# Altium schematic symbol library SamacSys.SchLib: 241 symbols (part 2 of 3)
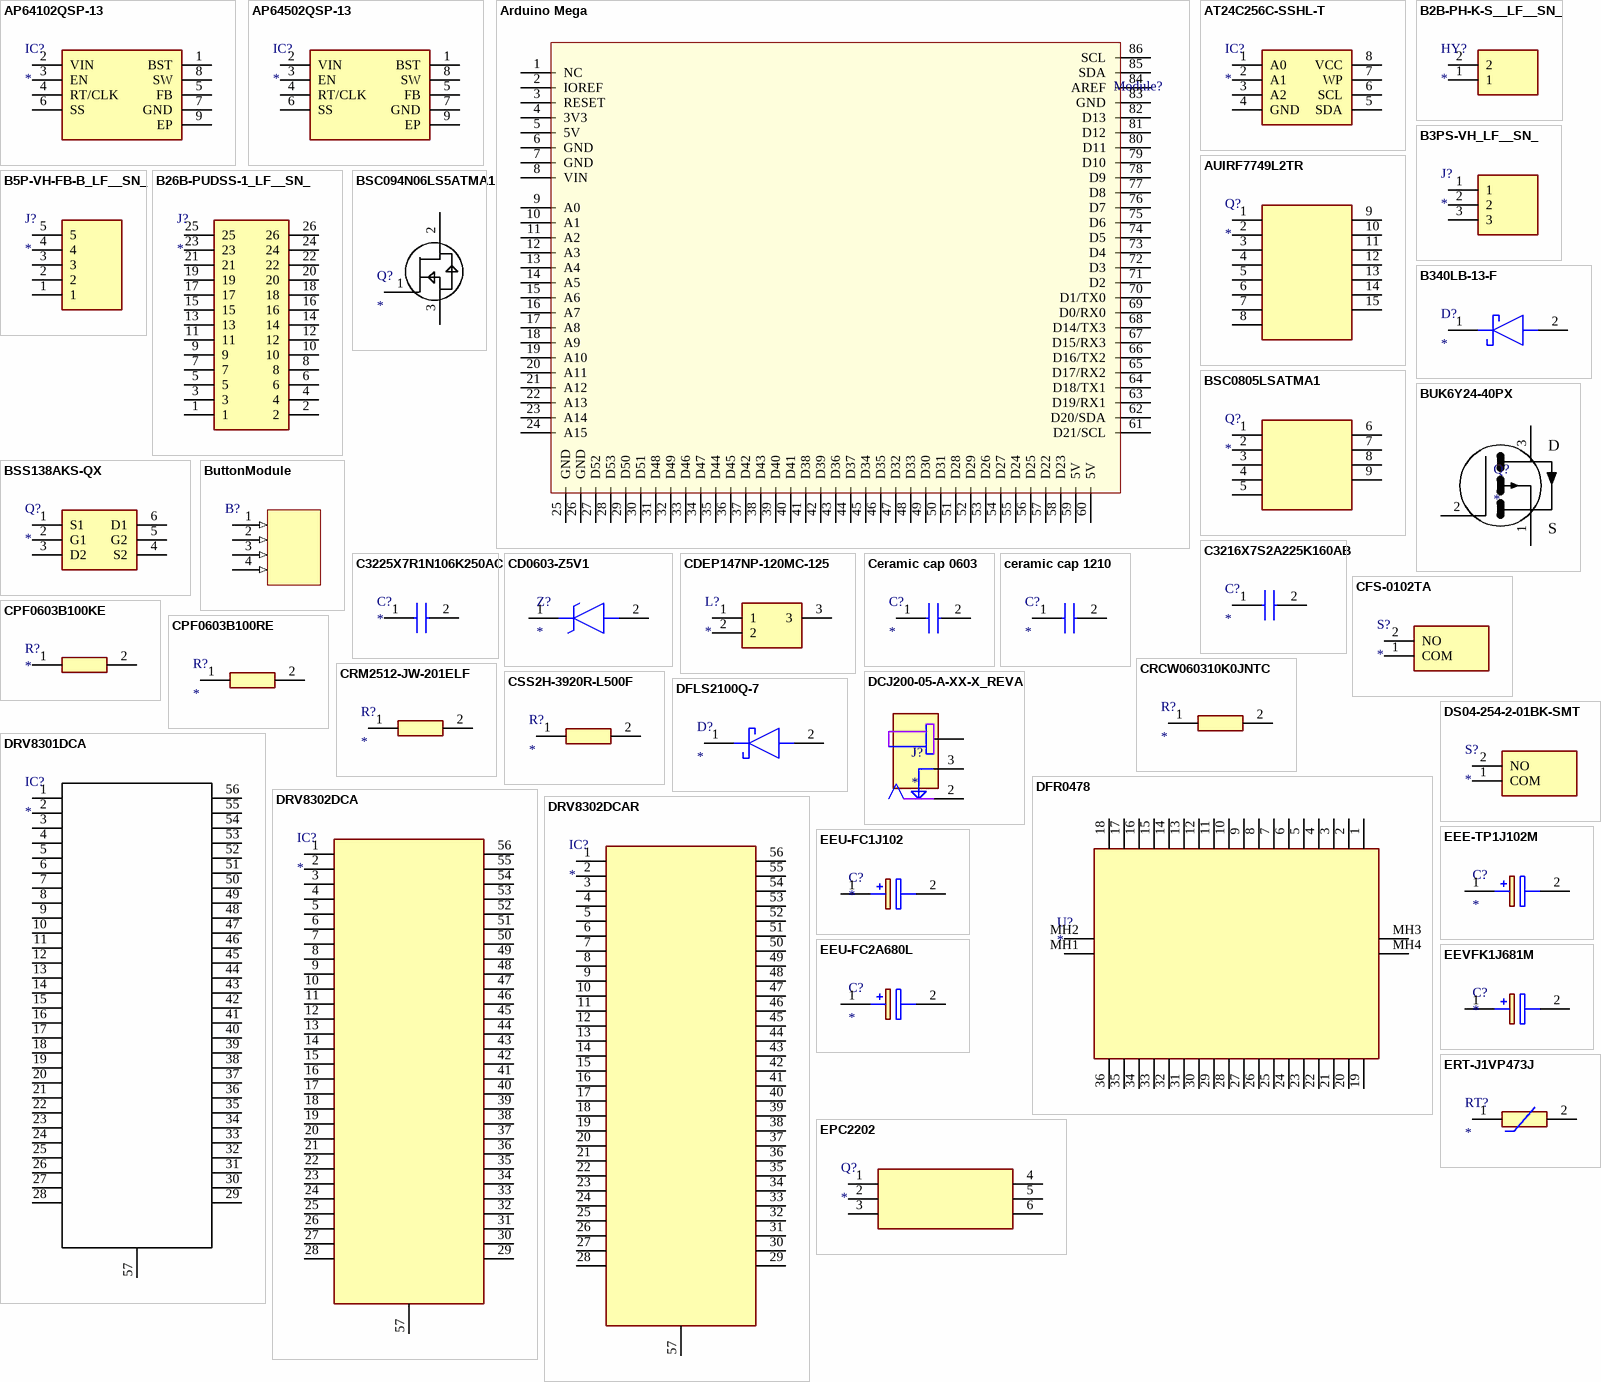
[diagram p7: symbols AP64102QSP-13 to ERT-J1VP473J]

## EEE-TP1J102M
designator C?
Capacitor Polarised; Manufacturer_Name: Panasonic; Manufacturer_Part_Number: EEE-TP1J102M; Datasheet Link: http://industrial.panasonic.com/cdbs/www-data/pdf/RDE0000/RDE0000C1255.pdf; Height: 22mm; Mouser Part Number: 667-EEE-TP1J102M; Mouser Price/Stock: https://www.mouser.co.uk/ProductDetail/Panasonic/EEE-TP1J102M?qs=XFmntM7Yc9ebPp5dua78mw%3D%3D; Arrow Part Number: EEE-TP1J102M; Arrow Price/Stock: https://www.arrow.com/en/products/eee-tp1j102m/panasonic?region=europe
footprint EEEFK0J133SM
pins: 1 +, 2 -

## EEU-FC1J102
designator C?
Capacitor Polarised; Manufacturer_Name: Panasonic; Manufacturer_Part_Number: EEU-FC1J102; Datasheet Link: https://industrial.panasonic.com/cdbs/www-data/pdf/RDF0000/ABA0000C1209.pdf; Height: 37.5mm; Mouser Part Number: 667-EEU-FC1J102; Mouser Price/Stock: https://www.mouser.com/Search/Refine.aspx?Keyword=667-EEU-FC1J102
footprint CAPPRD750W85D1600H3750
footprint capacitor layflat
pins: 1 +, 2 -

## EEU-FC2A680L
designator C?
Capacitor Polarised; Manufacturer_Name: Panasonic; Manufacturer_Part_Number: EEU-FC2A680L; Datasheet Link: http://industrial.panasonic.com/cdbs/www-data/pdf/RDF0000/ABA0000C1209.pdf; Height: 27mm; Mouser Part Number: 667-EEU-FC2A680L; Mouser Price/Stock: https://www.mouser.co.uk/ProductDetail/Panasonic/EEU-FC2A680L?qs=MtOUKumLmnZxLFnOjqwsxw%3D%3D; Arrow Part Number: EEU-FC2A680L; Arrow Price/Stock: https://www.arrow.com/en/products/eeu-fc2a680l/panasonic?region=nac
footprint CAPPRD500W65D1000H2700
pins: 1 +, 2 -

## EEVFK1J681M
designator C?
Capacitor Polarised; Manufacturer_Name: Panasonic; Manufacturer_Part_Number: EEVFK1J681M; Allied_Number: 70068610; Datasheet Link: https://industrial.panasonic.com/cdbs/www-data/pdf/RDE0000/ABA0000C1181.pdf; RS Part Number: 7083658P; RS Price/Stock: http://uk.rs-online.com/web/p/products/7083658P; Allied Price/Stock: https://www.alliedelec.com/panasonic-eevfk1j681m/70068610/
footprint FKV(K16)
pins: 1 +, 2 -

## EPC2202
designator Q?
Transistor; Manufacturer_Name: EPC; Manufacturer_Part_Number: EPC2202; Datasheet Link: http://epc-co.com/epc/documents/datasheets/EPC2202_datasheet.pdf; Height: 0.815mm
footprint EPC2202
pins: 1 G, 2 SUBSTRATE, 3 D_1, 4 S_1, 5 D_2, 6 S_2

## ERT-J1VP473J
designator RT?
Thermistor; Manufacturer_Name: Panasonic; Manufacturer_Part_Number: ERT-J1VP473J; Datasheet Link: https://industrial.panasonic.com/cdbs/www-data/pdf/AUA0000/AUA0000C8.pdf; Height: 0.9mm
footprint ERTJ1VA101H
pins: 1, 2

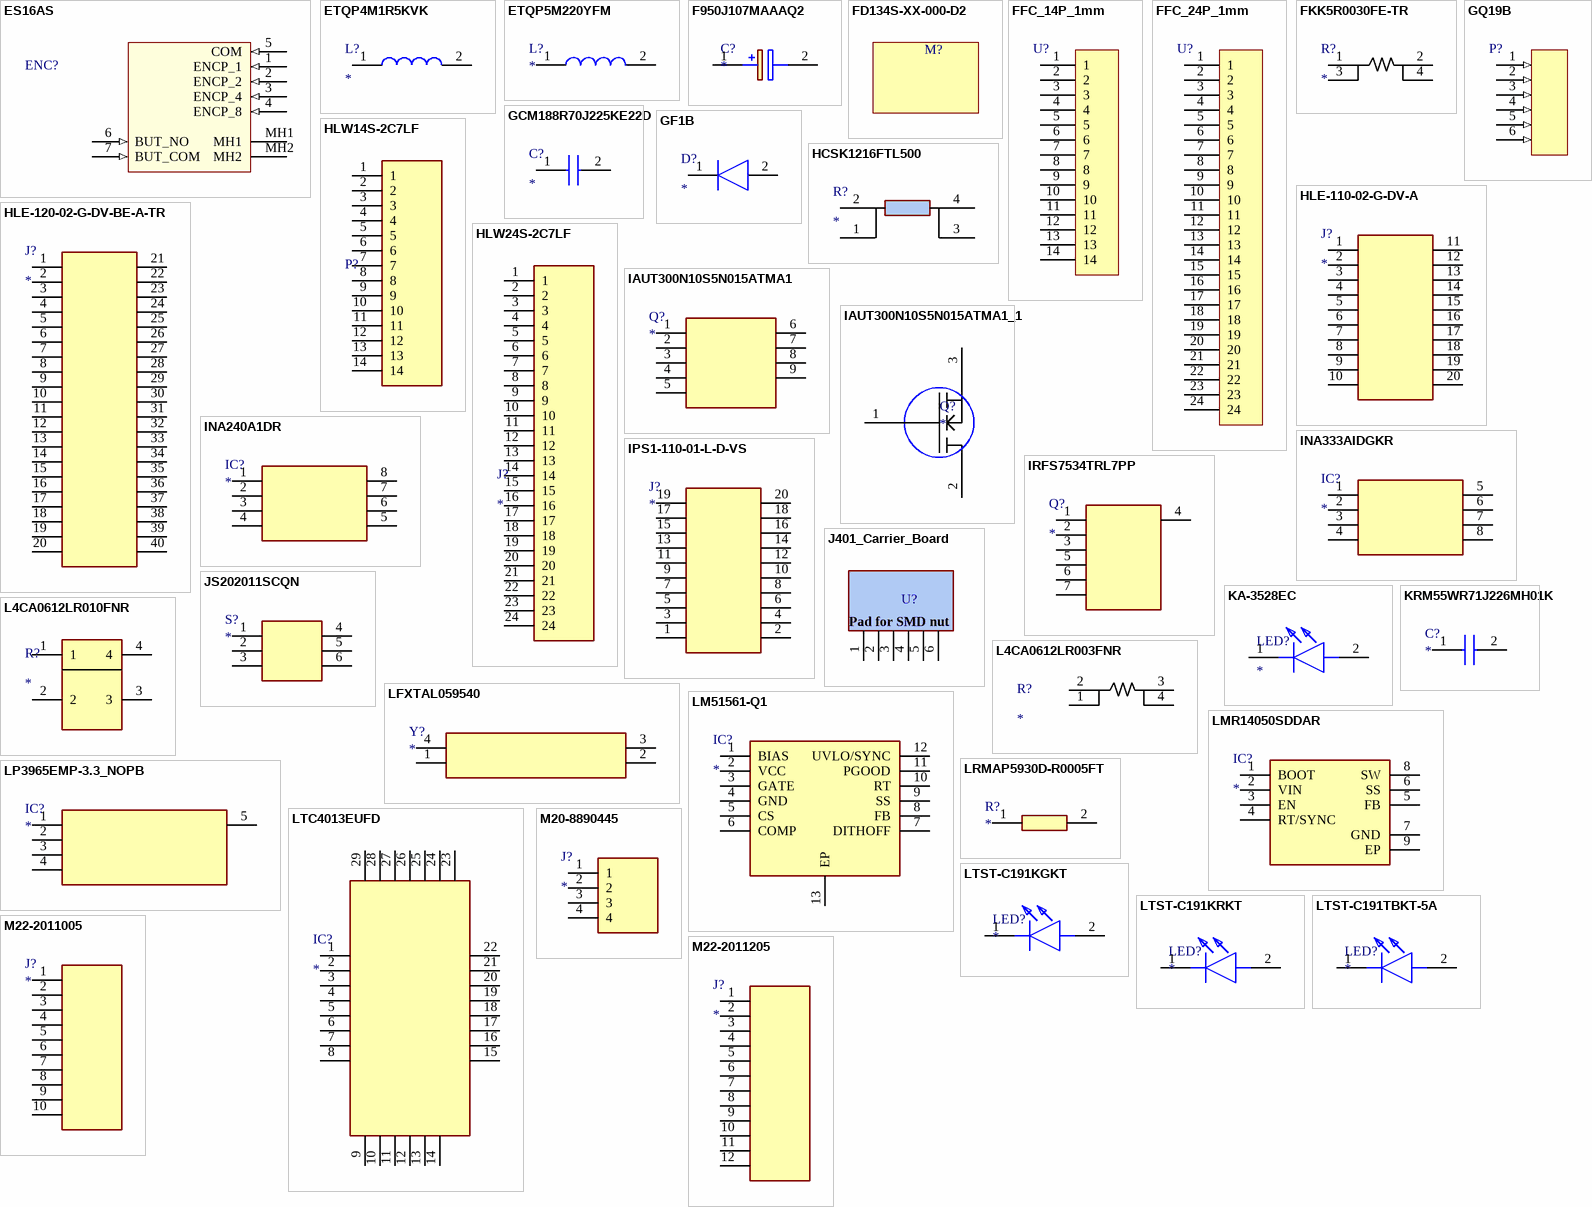
[diagram p3: symbols ES16AS to M22-2011205]

## ES16AS
designator ENC?  (value not drawn)
Absolute Encoder 16 position BCD; ComponentLink1Description: New link; ComponentLink1URL: https://item.taobao.com/item.htm?abbucket=19&id=711101684572&mi_id=0000Lt4bbgb_D-7w40iOwNFFc3WgliSgKq53HfGX-DsuvEk&ns=1&priceTId=21016c1a17624915091561445e08db&skuId=5252825914200&spm=a21n57.1.hoverItem.2&utparam=%7B%22aplus_abtest%22%3A%225e9e3be5292014ccb59f1a6673cfe35f%22%7D&xxc=taobaoSearch
footprint ES16AS (Absolute Encoder 16 position throughHole)
pins: 1 ENCP_1 (in), 2 ENCP_2 (in), 3 ENCP_4 (in), 4 ENCP_8 (in), 5 COM (in), 6 BUT_NO (in), 7 BUT_COM (in), MH1, MH2

## ETQP4M1R5KVK
designator L?
Inductor; Manufacturer_Name: Panasonic; Manufacturer_Part_Number: ETQP4M1R5KVK; Datasheet Link: http://industrial.panasonic.com/cdbs/www-data/pdf/AGL0000/AGL0000C63.pdf; Height: 4mm; Arrow Part Number: ETQP4M1R5KVK; Arrow Price/Stock: https://www.arrow.com/en/products/etq-p4m1r5kvk/panasonic
footprint ETQ-P4M_KVK
pins: 1, 2

## ETQP5M220YFM
designator L?
Inductor; Manufacturer_Name: Panasonic; Manufacturer_Part_Number: ETQP5M220YFM; Allied_Number: 70349407; Datasheet Link: https://b2b-api.panasonic.eu/file_stream/pids/fileversion/1334; Height: 5.4mm; RS Part Number: 7709401P; RS Price/Stock: http://uk.rs-online.com/web/p/products/7709401P; Allied Price/Stock: https://www.alliedelec.com/panasonic-etqp5m220yfm/70349407/
footprint INDPM7570X540N
pins: 1, 2

## F950J107MAAAQ2
designator C?
Capacitor Polarised; Manufacturer_Name: AVX; Manufacturer_Part_Number: F950J107MAAAQ2; Datasheet Link: https://altium.componentsearchengine.com/Datasheets/2/F950J107MAAAQ2.pdf; Height: 1.8mm
footprint CAPPM3216X180N
pins: 1 +, 2 -

## FD134S-XX-000-D2
designator M?  (value not drawn)
Kinco Motor Driver Dual Control
footprint FD134S-CB-020-D2 (Kinco Motor Driver dual driver)

## FFC_14P_1mm
designator U?  (value not drawn)
FFC Connector
footprint FFC_14P_1mm (FFC connector 1mm 14 position)
pins: 1, 2, 3, 4, 5, 6, 7, 8, 9, 10, 11, 12, 13, 14

## FFC_24P_1mm
designator U?  (value not drawn)
FFC 24P 1mm
footprint FFC_24P_1mm (FFC Connector pad)
pins: 1, 2, 3, 4, 5, 6, 7, 8, 9, 10, 11, 12, 13, 14, 15, 16, 17, 18, 19, 20, 21, 22, 23, 24

## FKK5R0030FE-TR
designator R?
Resistor; Manufacturer_Name: Ohmite; Manufacturer_Part_Number: FKK5R0030FE-TR; Datasheet Link: https://componentsearchengine.com/Datasheets/2/FKK5R0030FE-TR.pdf; Height: 3.5mm
footprint FKK5R0030FETR
pins: 1, 2, 3, 4

## GCM188R70J225KE22D
designator C?
Capacitor; Manufacturer_Name: Murata Electronics; Manufacturer_Part_Number: GCM188R70J225KE22D; Datasheet Link: https://psearch.en.murata.com/capacitor/product/GCM188R70J225KE22%23.pdf; Height: 0.9mm; Mouser Part Number: 81-GCM188R70J225KE2D; Mouser Price/Stock: https://www.mouser.com/Search/Refine.aspx?Keyword=81-GCM188R70J225KE2D; RS Part Number: 8151272P; RS Price/Stock: http://uk.rs-online.com/web/p/products/8151272P
footprint CAPC1608X90N
pins: 1, 2

## GF1B
designator D?
Diode; Manufacturer_Name: ON Semiconductor; Manufacturer_Part_Number: GF1B; Datasheet Link: https://www.onsemi.com/pub/Collateral/GF1M-D.pdf; Height: 2.5mm; Mouser Part Number: 512-GF1B; Mouser Price/Stock: https://www.mouser.co.uk/ProductDetail/ON-Semiconductor-Fairchild/GF1B?qs=qpnRKYi16JjfW7uh%2FyHYYg%3D%3D; Arrow Part Number: GF1B; Arrow Price/Stock: https://www.arrow.com/en/products/gf1b/on-semiconductor
footprint DIOM5227X250N
pins: 1 K, 2 A

## GQ19B
designator P?  (value not drawn)
Socket Housing for ESTOP 2 row 3 pin 6 circuit (Harness)
footprint GQ19B_Socket (Socket for ESTOP 6 position)
pins: 1 (in) "NC1", 2 (in) "NO1", 3 (in) "COM1", 4 (in) "NC2", 5 (in) "NO2", 6 (in) "COM2"

## HCSK1216FTL500
designator R?
Current Sense Resistor; Manufacturer_Name: Stackpole Electronics; Manufacturer_Part_Number: HCSK1216FTL500; Datasheet Link: https://www.seielect.com/catalog/sei-hcsk.pdf; Height: 1.9mm; Arrow Part Number: HCSK1216FTL500; Arrow Price/Stock: https://www.arrow.com/en/products/hcsk1216ftl500/stackpole-electronics
footprint HCSK1216FTL500
pins: 1, 2, 3, 4

## HLE-110-02-G-DV-A
designator J?
Connector; Manufacturer_Name: SAMTEC; Manufacturer_Part_Number: HLE-110-02-G-DV-A; Datasheet Link: http://suddendocs.samtec.com/prints/hle-1xx-02-xxx-dv-xx-xx-xx-mkt.pdf; Height: 3.96mm
footprint HLE11002GDVA
pins: 1, 2, 3, 4, 5, 6, 7, 8, 9, 10, 11, 12, 13, 14, 15, 16, 17, 18, 19, 20

## HLE-120-02-G-DV-BE-A-TR
designator J?
Connector; Manufacturer_Name: SAMTEC; Manufacturer_Part_Number: HLE-120-02-G-DV-BE-A-TR; Datasheet Link: https://www.mouser.fi/datasheet/2/527/hle-1370182.pdf; Height: 3.66mm; Mouser Part Number: 200-HLE12002GDVBEATR; Mouser Price/Stock: https://www.mouser.com/Search/Refine.aspx?Keyword=200-HLE12002GDVBEATR
footprint HLE12002GDVBEATR
pins: 1, 2, 3, 4, 5, 6, 7, 8, 9, 10, 11, 12, 13, 14, 15, 16, 17, 18, 19, 20, 21, 22, 23, 24, 25, 26, 27, 28, 29, 30, 31, 32, 33, 34, 35, 36, 37, 38, 39, 40

## HLW14S-2C7LF
designator P?  (value not drawn)
PFC connector
footprint HLW14S-2C7LF (PFC connector)
pins: 1, 2, 3, 4, 5, 6, 7, 8, 9, 10, 11, 12, 13, 14

## HLW24S-2C7LF
designator J?
FPC connector 24 position
footprint HLW24S-2C7LF (PFC_Connector)
pins: 1, 2, 3, 4, 5, 6, 7, 8, 9, 10, 11, 12, 13, 14, 15, 16, 17, 18, 19, 20, 21, 22, 23, 24

## IAUT300N10S5N015ATMA1
designator Q?
MOSFET (N-Channel); Manufacturer_Name: Infineon; Manufacturer_Part_Number: IAUT300N10S5N015ATMA1; Datasheet Link: https://www.infineon.com/dgdl/Infineon-IAUT300N10S5N015-DS-v01_00-EN.pdf?fileId=5546d4625ee5d4cd015f2469d7203245; Mouser Part Number: 726-IAUT300N10S5N015; Mouser Price/Stock: https://www.mouser.com/Search/Refine.aspx?Keyword=726-IAUT300N10S5N015
footprint IAUT300N10S5N015ATMA1_1
pins: 1 G, 2 S_1, 3 S_2, 4 S_3, 5 S_4, 6 S_5, 7 S_6, 8 S_7, 9 D

## IAUT300N10S5N015ATMA1_1
designator Q?
MOSFET N_Channel
footprint IAUT300N10S5N015ATMA1_1
pins: 1, 2, 3

## INA240A1DR
designator IC?
Integrated Circuit; Manufacturer_Name: Texas Instruments; Manufacturer_Part_Number: INA240A1DR; Datasheet Link: http://www.ti.com/lit/gpn/ina240; Height: 1.75mm; Mouser Part Number: 595-INA240A1DR; Mouser Price/Stock: https://www.mouser.com/Search/Refine.aspx?Keyword=595-INA240A1DR
footprint SOIC127P600X175-8N
pins: 1 IN-, 2 GND, 3 REF2, 4 NC, 5 OUT, 6 VS, 7 REF1, 8 IN+

## INA333AIDGKR
designator IC?
Integrated Circuit; Manufacturer_Name: Texas Instruments; Manufacturer_Part_Number: INA333AIDGKR; Datasheet Link: http://www.ti.com/lit/ds/symlink/ina333.pdf; Height: 1.1mm; Mouser Part Number: 595-INA333AIDGKR; Mouser Price/Stock: https://www.mouser.com/Search/Refine.aspx?Keyword=595-INA333AIDGKR
footprint SOP65P490X110-8N
pins: 1 RG_1, 2 VIN-, 3 VIN+, 4 V-, 5 REF, 6 VOUT, 7 V+, 8 RG_2

## IPS1-110-01-L-D-VS
designator J?
Connector; Manufacturer_Name: SAMTEC; Manufacturer_Part_Number: IPS1-110-01-L-D-VS; Datasheet Link: http://suddendocs.samtec.com/prints/ips1-1xx-xx-xx-d-vs-xx-xx-mkt.pdf; Height: 8.51mm; Mouser Part Number: 200-IPS111001LDVS; Mouser Price/Stock: https://www.mouser.com/Search/Refine.aspx?Keyword=200-IPS111001LDVS
footprint IPS111001LDVS
pins: 1, 2, 3, 4, 5, 6, 7, 8, 9, 10, 11, 12, 13, 14, 15, 16, 17, 18, 19, 20

## IRFS7534TRL7PP
designator Q?
MOSFET (N-Channel); Manufacturer_Name: Infineon; Manufacturer_Part_Number: IRFS7534TRL7PP; Datasheet Link: https://www.infineon.com/dgdl/irfs7534-7ppbf.pdf?fileId=5546d462533600a40153563aa65221da; Height: 4.83mm; Mouser Part Number: 942-IRFS7534TRL7PP; Mouser Price/Stock: https://www.mouser.co.uk/ProductDetail/Infineon-IR/IRFS7534TRL7PP?qs=a7rcPCEf1Q%252B2WBYCHY9HvQ%3D%3D; Arrow Part Number: IRFS7534TRL7PP; Arrow Price/Stock: https://www.arrow.com/en/products/irfs7534trl7pp/infineon-technologies-ag
footprint IRFS7534TRL7PP
pins: 1 G, 2 S_1, 3 S_2, 4 D, 5 S_3, 6 S_4, 7 S_5

## J401_Carrier_Board
designator U?, comment J401  (value not drawn)  (no BOM)
Carrier Board
footprint J401_Carrier_Mount
pins: 1, 2, 3, 4, 5, 6
text: Pad for SMD nut

## JS202011SCQN
designator S?
Switch; Manufacturer_Name: C & K COMPONENTS; Manufacturer_Part_Number: JS202011SCQN; Datasheet Link: http://www.ckswitches.com/media/1422/js.pdf; Mouser Part Number: 611-JS202011SCQN; Mouser Price/Stock: https://www.mouser.com/Search/Refine.aspx?Keyword=611-JS202011SCQN; RS Part Number: 1546137; RS Price/Stock: http://uk.rs-online.com/web/p/products/1546137
footprint JS202011SCQN
pins: 1, 2, 3, 4, 5, 6

## KA-3528EC
designator LED?
LED; Manufacturer_Name: Kingbright; Manufacturer_Part_Number: KA-3528EC; Datasheet Link: https://eagle.componentsearchengine.com/Datasheets/2/KA-3528EC.pdf; Height: 2.1mm; Mouser Part Number: N/A; Mouser Price/Stock: https://www.mouser.com/Search/Refine.aspx?Keyword=N%2FA; Arrow Part Number: KA-3528EC; Arrow Price/Stock: https://www.arrow.com/en/products/ka-3528ec/kingbright
footprint LEDM3528X210N
pins: 1 K, 2 A

## KRM55WR71J226MH01K
designator C?
Capacitor; Manufacturer_Name: Murata Electronics; Manufacturer_Part_Number: KRM55WR71J226MH01K; Datasheet Link: https://psearch.en.murata.com/capacitor/product/KRM55WR71J226MH01%23.html; Height: 6.7mm; Mouser Part Number: 81-KRM55WR71J226MH1K; Mouser Price/Stock: https://www.mouser.com/Search/Refine.aspx?Keyword=81-KRM55WR71J226MH1K; RS Part Number: 8416740P; RS Price/Stock: http://uk.rs-online.com/web/p/products/8416740P
footprint CAPC6153X670N
pins: 1, 2

## L4CA0612LR003FNR
designator R?
Resistor; Manufacturer_Name: LITTELFUSE; Manufacturer_Part_Number: L4CA0612LR003FNR; Datasheet Link: https://www.littelfuse.com/media?resourcetype=datasheets&itemid=db674d7b-aa25-4173-816a-92297475a59f&filename=littelfuse-resistor-l4ca-c-datasheet; Height: 0.7mm
footprint L4CA0612L0M50FNR
pins: 1, 2, 3, 4

## L4CA0612LR010FNR
designator R?
Resistor; Manufacturer_Name: LITTELFUSE; Manufacturer_Part_Number: L4CA0612LR010FNR; Datasheet Link: https://www.littelfuse.com/media?resourcetype=datasheets&itemid=db674d7b-aa25-4173-816a-92297475a59f&filename=littelfuse-resistor-l4ca-c-datasheet; Height: 0.7mm
footprint L4CA0612L0M50FNR
pins: 1, 2, 3, 4

## LFXTAL059540
designator Y?
Crystal or Oscillator; Manufacturer_Name: IQD; Manufacturer_Part_Number: LFXTAL059540; Datasheet Link: https://componentsearchengine.com/Datasheets/2/LFXTAL059540.pdf; Height: 1mm
footprint LFXTAL059540
pins: 1 CRYSTAL_1, 2 GND_1, 3 CRYSTAL_2, 4 GND_2

## LM51561-Q1
designator IC?
Integrated Circuit; Manufacturer_Name: Texas Instruments; Manufacturer_Part_Number: LM51561-Q1; Datasheet Link: https://www.ti.com.cn/cn/lit/ds/symlink/lm51561-q1.pdf?ts=1627631190706&ref_url=https%253A%252F%252Fwww.ti.com.cn%252Fsitesearch%252Fcn%252Fdocs%252Funiversalsearch.tsp%253FlangPref%253Dzh-CN%2526searchTerm%253DLM51561-Q1%2526nr%253D34; Height: 0.8mm
footprint SON50P200X300X80-13N-D
pins: 1 BIAS, 2 VCC, 3 GATE, 4 GND, 5 CS, 6 COMP, 7 DITHOFF, 8 FB, 9 SS, 10 RT, 11 PGOOD, 12 UVLO/SYNC, 13 EP

## LMR14050SDDAR
designator IC?
Integrated Circuit; Manufacturer_Name: Texas Instruments; Manufacturer_Part_Number: LMR14050SDDAR; Datasheet Link: http://www.ti.com/lit/gpn/lmr14050; Height: 1.7mm; Mouser Part Number: 595-LMR14050SDDAR; Mouser Price/Stock: https://www.mouser.co.uk/ProductDetail/Texas-Instruments/LMR14050SDDAR?qs=G5PZsBocSXuzvyUQdQ5q2Q%3D%3D; Arrow Part Number: LMR14050SDDAR; Arrow Price/Stock: https://www.arrow.com/en/products/lmr14050sddar/texas-instruments?utm_currency=USD&region=nac
footprint SOIC127P600X170-9N
pins: 1 BOOT, 2 VIN, 3 EN, 4 RT/SYNC, 5 FB, 6 SS, 7 GND, 8 SW, 9 EP

## LP3965EMP-3.3_NOPB
designator IC?
Integrated Circuit; Manufacturer_Name: Texas Instruments; Manufacturer_Part_Number: LP3965EMP-3.3/NOPB; Datasheet Link: http://www.ti.com/lit/ds/symlink/lp3965.pdf; Height: 1.8mm; Mouser Part Number: 926-LP3965EMP3.3NOPB; Mouser Price/Stock: https://www.mouser.com/Search/Refine.aspx?Keyword=926-LP3965EMP3.3NOPB; RS Part Number: 6474328P; RS Price/Stock: http://uk.rs-online.com/web/p/products/6474328P
footprint SOT150P700X180-5N
pins: 1 ~{SD}, 2 VIN, 3 VOUT, 4 SENSE/ADJ, 5 GND_TAB

## LRMAP5930D-R0005FT
designator R?
Resistor; Manufacturer_Name: TT ELECTRONICS / WELWYN; Manufacturer_Part_Number: LRMAP5930D-R0005FT; Datasheet Link: https://componentsearchengine.com/Datasheets/2/LRMAP5930D-R0005FT.pdf; Height: 1.57mm
footprint RESC15078X157N
pins: 1, 2

## LTC4013EUFD
designator IC?
Integrated Circuit; Manufacturer_Name: Analog Devices; Manufacturer_Part_Number: LTC4013EUFD; Height: 0.8mm
footprint QFN50P400X500X80-29N-D
pins: 1 INFET, 2 DCIN, 3 MPPT, 4 FBOC, 5 ENAB, 6 ISMON, 7 STAT0, 8 STAT1, 9 LB, 10 TMR, 11 MODE1, 12 MODE2, 13 CLKOUT, 14 SYNC, 15 RT, 16 ITH, 17 NTC, 18 FB, 19 BAT, 20 SENSE, 21 BST, 22 TG, 23 SW, 24 BG, 25 INTVCC, 26 PGND, 27 VIN, 28 VIN_S, 29 SGND

## LTST-C191KGKT
designator LED?
LED; Manufacturer_Name: Lite-On; Manufacturer_Part_Number: LTST-C191KGKT; Datasheet Link: http://www.mouser.com/ds/2/239/S_110_LTST-C191KGKT-369560.pdf; Height: 0.55mm; Mouser Part Number: 859-LTST-C191KGKT; Mouser Price/Stock: https://www.mouser.com/Search/Refine.aspx?Keyword=859-LTST-C191KGKT; RS Part Number: 6921010P; RS Price/Stock: http://uk.rs-online.com/web/p/products/6921010P
footprint LEDC1608X55N
footprint LEDC1608X55N
pins: 1 K, 2 A

## LTST-C191KRKT
designator LED?
LED; Manufacturer_Name: Lite-On; Manufacturer_Part_Number: LTST-C191KRKT; Datasheet Link: http://www.mouser.com/ds/2/239/S_110_LTST-C191KRKT-539838.pdf; Height: 0.55mm; Mouser Part Number: 859-LTST-C191KRKT; Mouser Price/Stock: https://www.mouser.com/Search/Refine.aspx?Keyword=859-LTST-C191KRKT; RS Part Number: 1278415P; RS Price/Stock: http://uk.rs-online.com/web/p/products/1278415P
footprint LEDC1608X55N
pins: 1 K, 2 A

## LTST-C191TBKT-5A
designator LED?
LED; Manufacturer_Name: Lite-On; Manufacturer_Part_Number: LTST-C191TBKT-5A; Datasheet Link: http://www.mouser.com/ds/2/239/S_110_LTST-C191TBKT-5A-336399.pdf; Height: 0.65mm; Mouser Part Number: 859-LTST-C191TBKT-5A; Mouser Price/Stock: https://www.mouser.com/Search/Refine.aspx?Keyword=859-LTST-C191TBKT-5A
footprint LEDC1608X65N
pins: 1 K, 2 A

## M20-8890445
designator J?
Connector; Manufacturer_Name: Harwin; Manufacturer_Part_Number: M20-8890445; Datasheet Link: https://cdn.harwin.com/pdfs/M20-889.pdf; Mouser Part Number: 855-M20-8890445; Mouser Price/Stock: https://www.mouser.co.uk/ProductDetail/Harwin/M20-8890445?qs=k41KVqW3ymqP79ULFIESdg%3D%3D
footprint M208890445
pins: 1, 2, 3, 4

## M22-2011005
designator J?
Connector; Manufacturer_Name: HARWIN; Manufacturer_Part_Number: M22-2011005; Allied_Number: R1052589; Datasheet Link: https://componentsearchengine.com/Datasheets/3/M22-2011005.pdf; Height: 5.25mm; Mouser Part Number: 855-M22-2011005; Mouser Price/Stock: https://www.mouser.com/Search/Refine.aspx?Keyword=855-M22-2011005; RS Part Number: 1730929; RS Price/Stock: http://uk.rs-online.com/web/p/products/1730929; Allied Price/Stock: https://www.alliedelec.com/harwin-m22-2011005/R1052589/
footprint HDRV10W50P12X200_1X10_2000X218X525P
pins: 1, 2, 3, 4, 5, 6, 7, 8, 9, 10

## M22-2011205
designator J?
Connector; Manufacturer_Name: HARWIN; Manufacturer_Part_Number: M22-2011205; Datasheet Link: https://cdn.harwin.com/pdfs/M22-201.pdf; Height: 5.25mm; Mouser Part Number: 855-M22-2011205; Mouser Price/Stock: https://www.mouser.com/Search/Refine.aspx?Keyword=855-M22-2011205; RS Part Number: 1730943; RS Price/Stock: https://uk.rs-online.com/web/p/products/1730943
footprint HDRV12W60P0X200_1X12_2415X200X525P
pins: 1, 2, 3, 4, 5, 6, 7, 8, 9, 10, 11, 12

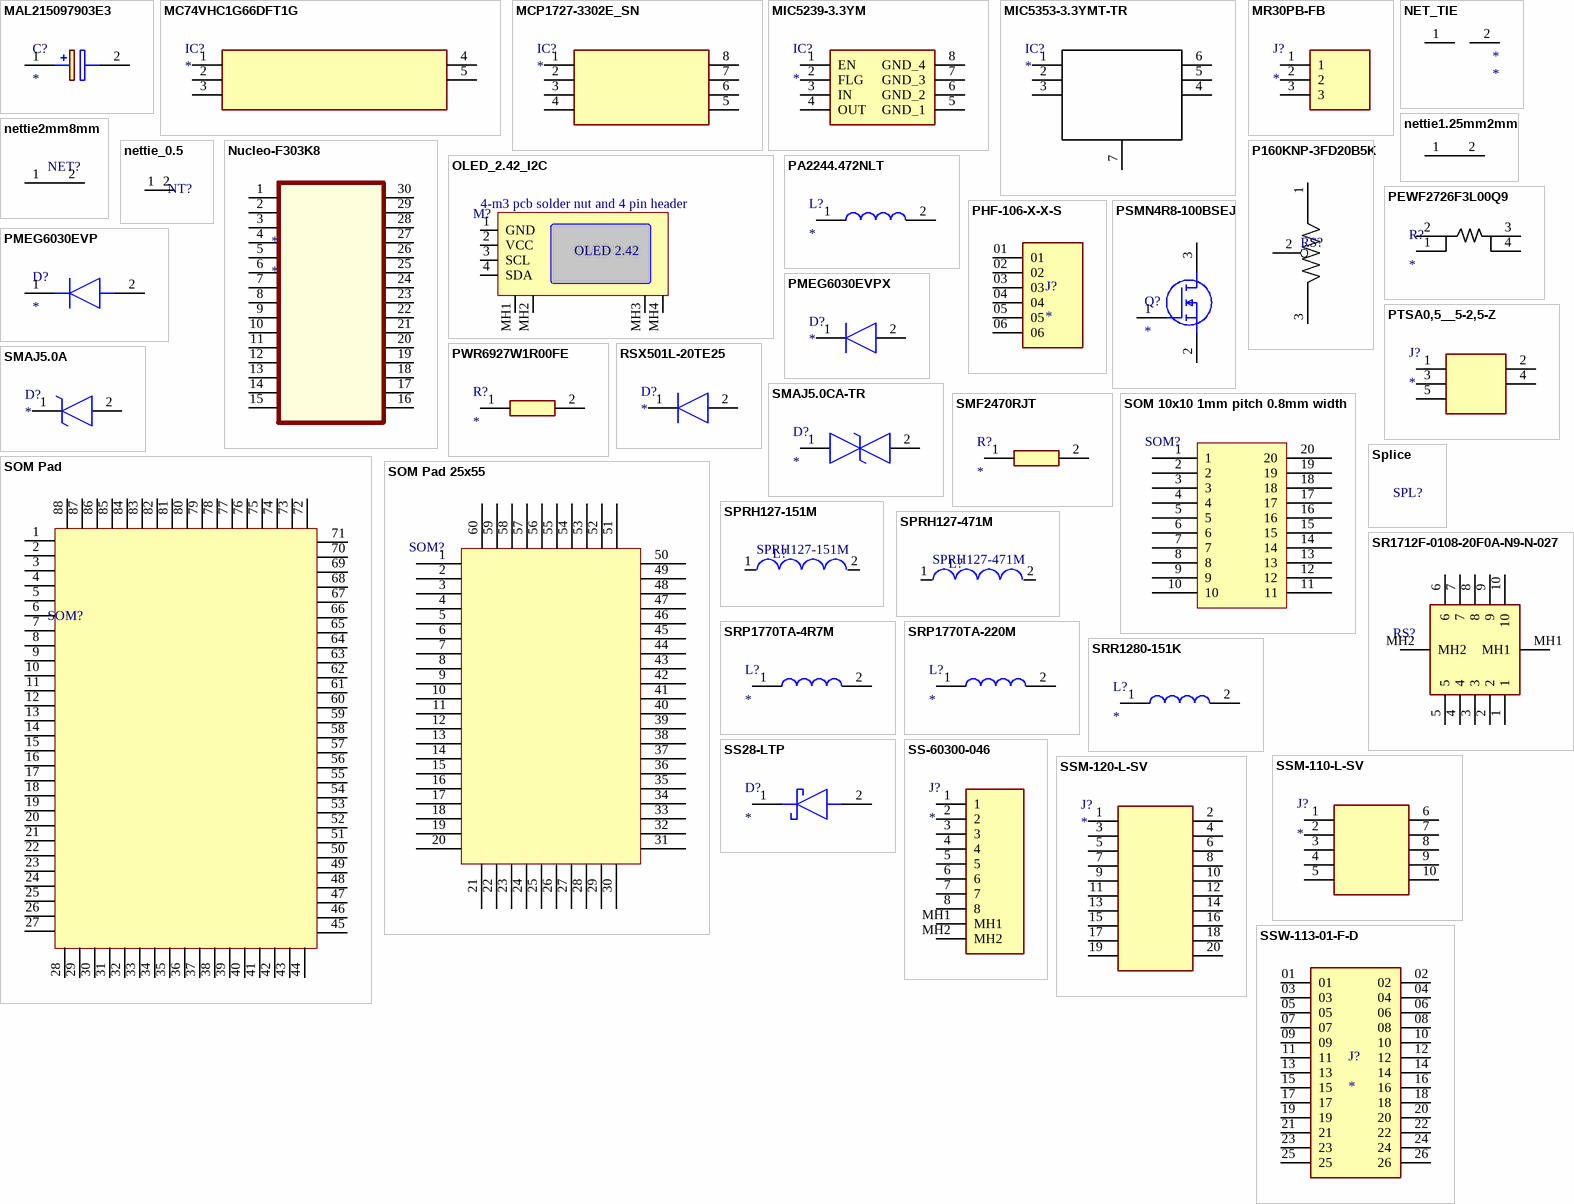
[diagram p4: symbols MAL215097903E3 to SSW-113-01-F-D]

## MAL215097903E3
designator C?
Capacitor Polarised; Manufacturer_Name: Vishay; Manufacturer_Part_Number: MAL215097903E3; Datasheet Link: https://www.vishay.com/docs/28395/150crz.pdf; Height: 10.5mm; Mouser Part Number: 594-MAL215097903E3; Mouser Price/Stock: https://www.mouser.co.uk/ProductDetail/Vishay-BC-Components/MAL215097903E3?qs=LPi%252B6n6Uj5OsnMk8zC6V4Q%3D%3D
footprint CAPAE1050X1050N
pins: 1 +, 2 -

## MC74VHC1G66DFT1G
designator IC?
Integrated Circuit; Manufacturer_Name: ON Semiconductor; Manufacturer_Part_Number: MC74VHC1G66DFT1G; Allied_Number: 70466550; Datasheet Link: http://www.onsemi.com/pub/Collateral/MC74VHC1G66-D.PDF; Height: 1.1mm; Mouser Part Number: 863-MC74VHC1G66DFT1G; Mouser Price/Stock: https://www.mouser.com/Search/Refine.aspx?Keyword=863-MC74VHC1G66DFT1G; RS Part Number: 8064027; RS Price/Stock: https://uk.rs-online.com/web/p/products/8064027; Allied Price/Stock: http://www.alliedelec.com/on-semiconductor-mc74vhc1g66dft1g/70466550/
footprint SOT65P210X110-5N
pins: 1 IN/OUT_XA, 2 OUT/IN_YA, 3 GND, 4 ON/OFF_CONTROL, 5 VCC

## MCP1727-3302E_SN
designator IC?
Integrated Circuit; Manufacturer_Name: Microchip; Manufacturer_Part_Number: MCP1727-3302E/SN; Allied_Number: 70046131; Datasheet Link: http://ww1.microchip.com/downloads/en/DeviceDoc/21999b.pdf; Height: 1.75mm; Mouser Part Number: 579-MCP1727-3302E/SN; Mouser Price/Stock: https://www.mouser.com/Search/Refine.aspx?Keyword=579-MCP1727-3302E%2FSN; RS Part Number: 0403759P; RS Price/Stock: http://uk.rs-online.com/web/p/products/0403759P; Allied Price/Stock: http://www.alliedelec.com/microchip-technology-inc-mcp1727-3302e-sn/70046131/
footprint SOIC127P600X175-8N
pins: 1 VIN, 2 VIN_1, 3 ~{SHDN}, 4 GND, 5 PWRGD, 6 CDELAY, 7 SENSE, 8 VOUT

## MIC5239-3.3YM
designator IC?
Integrated Circuit; Manufacturer_Name: Microchip; Manufacturer_Part_Number: MIC5239-3.3YM; Datasheet Link: https://datasheet.datasheetarchive.com/originals/distributors/Datasheets_SAMA/6dda936cea7bed94cfd59d218c8223d8.pdf; Height: 1.73mm; Mouser Part Number: 998-MIC5239-3.3YM; Mouser Price/Stock: https://www.mouser.co.uk/ProductDetail/Microchip-Technology/MIC5239-3.3YM?qs=kh6iOki%2FeLFBGt7xnl2g1g%3D%3D; Arrow Part Number: MIC5239-3.3YM; Arrow Price/Stock: https://www.arrow.com/en/products/mic5239-3.3ym/microchip-technology?region=europe
footprint SOIC127P599X173-8N
pins: 1 EN, 2 FLG, 3 IN, 4 OUT, 5 GND_1, 6 GND_2, 7 GND_3, 8 GND_4

## MIC5353-3.3YMT-TR
designator IC?
Integrated Circuit; Manufacturer_Name: Microchip; Manufacturer_Part_Number: MIC5353-3.3YMT-TR; Datasheet Link: http://ww1.microchip.com/downloads/en/DeviceDoc/mic5353.pdf; Height: 0.6mm; Mouser Part Number: 998-MIC5353-3.3YMTTR; RS Part Number: 1773219P; RS Price/Stock: http://uk.rs-online.com/web/p/products/1773219P
footprint SON50P160X160X60-7N-D
pins: 1 EN, 2 GND, 3 VIN, 4 VOUT, 5 NC, 6 BYP, 7 EP

## MR30PB-FB
designator J?
Connector; Manufacturer_Name: Amass; Manufacturer_Part_Number: MR30PB-FB; Datasheet Link: 23226; Height: 9.4mm
footprint MR30PBFB
pins: 1, 2, 3

## NET_TIE
designator *  (net tie, no BOM)
footprint NET_TIE1
pins: 1 10, 2 11

## nettie1.25mm2mm
designator *  (value not drawn)  (net tie, no BOM)
footprint NET_TIE
pins: 1, 2

## nettie2mm8mm
designator NET?  (net tie, no BOM)
footprint nettie
pins: 1, 2

## nettie_0.5
designator NT?  (value not drawn)  (net tie, no BOM)
footprint nettie_0.5
pins: 1, 2

## Nucleo-F303K8
designator *
pins: 1 PA9, 2 PA10, 3 NRST, 4 GND, 5 PA12, 6 PB0, 7 PB7, 8 PB6, 9 PB1, 10 PF0, 11 PF1, 12 PA8, 13 PA11, 14 PB5, 15 PB4, 16 PB3, 17 3V3, 18 AREF, 19 PA0, 20 PA1, 21 PA3, 22 PA4, 23 PA5, 24 PA6, 25 PA7, 26 PA2, 27 5V, 28 NRST, 29, 30

## OLED_2.42_I2C
designator M?  additional item: 4-m3 pcb solder nut and 4 pin header  (hidden comment: *)
OLED LCD 2.42 I2C
footprint LCD_2.42Inch (SDA Connection / 3V3 and 5V compatible)
pins: 1 GND, 2 VCC, 3 SCL, 4 SDA, MH1, MH2, MH3, MH4
text: OLED 2.42

## P160KNP-3FD20B5K
designator RS?  (value not drawn)
detent variable resistor 21 clicks 5K; ComponentLink1Description: New link; ComponentLink1URL: https://www.mouser.sg/datasheet/2/414/TTRB_S_A0009241240_1-2565587.pdf; HelpURL: https://www.mouser.sg/datasheet/2/414/TTRB_S_A0009241240_1-2565587.pdf
footprint P160KNP-3FD20B5K (detent potentiometer 20 clicks 5k resistor)
pins: 1, 2, 3

## PA2244.472NLT
designator L?
Inductor; Manufacturer_Name: PULSE; Manufacturer_Part_Number: PA2244.472NLT; Datasheet Link: https://productfinder.pulseelectronics.com/api/open/part-attachments/datasheet/pa2243.102nlt; Height: 10mm
footprint PA2244472NLT
pins: 1, 2

## PEWF2726F3L00Q9
designator R?
3mohm current sense resistor 5W; Manufacturer_Name: C&B Electronics Shenzhen CO., LTD; Manufacturer_Part_Number: PEWF2726F3L00Q9; Datasheet Link: https://datasheets.globalspec.com/ds/c-b-electronics-shenzhen/pewf2726f3l00q9/a3758b5d-f35d-49a0-abb5-ee2ed6aca71c; Height: 0.889mm; Mouser Part Number: 71-WSL3637R0100DEA; Mouser Price/Stock: https://www.mouser.co.uk/ProductDetail/Vishay-Dale/WSL3637R0100DEA?qs=5qr1tyFj3NLzr0u0T49OJA%3D%3D; Arrow Part Number: WSL3637R0100DEA; Arrow Price/Stock: https://www.arrow.com/en/products/wsl3637r0100dea/vishay
footprint WSL3637R0100DEA
pins: 1, 2, 3, 4

## PHF-106-X-X-S
designator J?
6 pin single row vertical female connector; MF: {'manufacturer': u'Samtec'}; MP: PHF-106-X-X-S; Package: None; Price: None; Value: *; Availability: Unavailable; System: Connector
footprint SAMTEC_PHF-106-X-X-S
pins: 01, 02, 03, 04, 05, 06

## PMEG6030EVP
designator D?
Diode; Manufacturer_Name: Nexperia; Manufacturer_Part_Number: PMEG6030EVP; Datasheet Link: https://datasheet.datasheetarchive.com/originals/distributors/Datasheets-NXP/DSANXP010004927.pdf; Height: 1.1mm; Mouser Part Number: N/A; Mouser Price/Stock: https://www.mouser.com/Search/Refine.aspx?Keyword=N%2FA
footprint SOD4725X110N (Footprint not found)
pins: 1 K, 2 A

## PMEG6030EVPX
designator D?
Diode; Manufacturer_Name: Nexperia; Manufacturer_Part_Number: PMEG6030EVPX; Datasheet Link: https://componentsearchengine.com/Datasheets/1/PMEG6030EVPX.pdf; Height: 1.1mm; Mouser Part Number: 771-PMEG6030EVPX; Mouser Price/Stock: https://www.mouser.com/Search/Refine.aspx?Keyword=771-PMEG6030EVPX; RS Part Number: 1705367P; RS Price/Stock: http://uk.rs-online.com/web/p/products/1705367P
footprint SODFL4725X110N
pins: 1 K, 2 A

## PSMN4R8-100BSEJ
designator Q?
MOSFET (N-Channel); Manufacturer_Name: Nexperia; Manufacturer_Part_Number: PSMN4R8-100BSEJ; Datasheet Link: https://assets.nexperia.com/documents/data-sheet/PSMN4R8-100BSE.pdf; Mouser Part Number: 771-PSMN4R8-100BSEJ; Mouser Price/Stock: https://www.mouser.co.uk/ProductDetail/Nexperia/PSMN4R8-100BSEJ?qs=cbprxTG2Yq8PMgmEgrT98w%3D%3D; Arrow Part Number: PSMN4R8-100BSEJ; Arrow Price/Stock: https://www.arrow.com/en/products/psmn4r8-100bsej/nexperia
footprint D2PAK(SOT404)_1
pins: 1 G, 2 S, 3 D

## PTSA0,5__5-2,5-Z
designator J?
Connector; Manufacturer_Name: Phoenix Contact; Manufacturer_Part_Number: PTSA0,5/ 5-2,5-Z; Datasheet Link: https://www.phoenixcontact.com/en-in/products/printed-circuit-board-terminal-ptsa-05-5-25-z-1990038; Height: 13.1mm
footprint PTSA05525Z
pins: 1, 2, 3, 4, 5

## PWR6927W1R00FE
designator R?
Resistor; Manufacturer_Name: Bourns; Manufacturer_Part_Number: PWR6927W1R00FE; Datasheet Link: https://www.bourns.com/docs/Product-Datasheets/PWR6927_8030_8937_A247_B053.pdf; Height: 6.85mm; Mouser Part Number: 652-PWR6927W1R00FE; Mouser Price/Stock: https://www.mouser.co.uk/ProductDetail/Bourns/PWR6927W1R00FE?qs=NeOn4crkEut%2Fx7F6xcRhNQ%3D%3D
footprint RESM17569X685N
pins: 1, 2

## RSX501L-20TE25
designator D?
Diode; Manufacturer_Name: ROHM Semiconductor; Manufacturer_Part_Number: RSX501L-20TE25; Allied_Number: 70521882; Datasheet Link: https://componentsearchengine.com/Datasheets/2/RSX501L-20TE25.pdf; Height: 2.2mm; Mouser Part Number: 755-RSX501L-20TE25; Mouser Price/Stock: https://www.mouser.com/Search/Refine.aspx?Keyword=755-RSX501L-20TE25; RS Part Number: 7002665; RS Price/Stock: https://uk.rs-online.com/web/p/products/7002665; Allied Price/Stock: https://www.alliedelec.com/rohm-semiconductor-rsx501l-20te25/70521882/
footprint DIOM5026X220N
pins: 1 K, 2 A

## SMAJ5.0A
designator D?
TVS Diode (Uni-directional); Manufacturer_Name: LITTELFUSE; Manufacturer_Part_Number: SMAJ5.0A; Allied_Number: 70184376; Datasheet Link: https://www.littelfuse.com/~/media/electronics/datasheets/tvs_diodes/littelfuse_tvs_diode_smaj_datasheet.pdf.pdf; Height: 2.29mm; Mouser Part Number: 576-SMAJ5.0A; Mouser Price/Stock: https://www.mouser.com/Search/Refine.aspx?Keyword=576-SMAJ5.0A; RS Part Number: 7645565P; RS Price/Stock: http://uk.rs-online.com/web/p/products/7645565P; Allied Price/Stock: https://www.alliedelec.com/littelfuse-smaj5-0a/70184376/
footprint DIOM5026X229N
pins: 1 K, 2 A

## SMAJ5.0CA-TR
designator D?
TVS Diode (Bi-directional); Manufacturer_Name: STMicroelectronics; Manufacturer_Part_Number: SMAJ5.0CA-TR; Datasheet Link: https://www.st.com/resource/en/datasheet/smaj.pdf; Height: 2.65mm; Mouser Part Number: 511-SMAJ5.0CA; Mouser Price/Stock: https://www.mouser.co.uk/ProductDetail/STMicroelectronics/SMAJ50CA-TR?qs=tER8mgMWkVyeD7jzg%2FweBQ%3D%3D; Arrow Part Number: SMAJ5.0CA-TR; Arrow Price/Stock: https://www.arrow.com/en/products/smaj5.0ca-tr/stmicroelectronics?region=nac
footprint DIONM5126X265N
pins: 1, 2

## SMF2470RJT
designator R?
Resistor; Manufacturer_Name: TE Connectivity; Manufacturer_Part_Number: SMF2470RJT; Datasheet Link: https://www.te.com/commerce/DocumentDelivery/DDEController?Action=srchrtrv&DocNm=8-1773459-4_ELEVATOR_ESCALATOR_SOLUTIONS&DocType=Data%20Sheet&DocLang=English&PartCntxt=1879011-9&DocFormat=pdf; Height: 3.85mm; Mouser Part Number: 279-SMF2470RJT; Mouser Price/Stock: https://www.mouser.com/Search/Refine.aspx?Keyword=279-SMF2470RJT; Arrow Part Number: SMF2470RJT; Arrow Price/Stock: https://www.arrow.com/en/products/smf2470rjt/te-connectivity
footprint RESM7940X385N
pins: 1, 2

## SOM 10x10 1mm pitch 0.8mm width
designator SOM?  (value not drawn)  (no BOM)
SOM part
footprint SOM PAD 10x10 (system on module Pad)
pins: 1, 2, 3, 4, 5, 6, 7, 8, 9, 10, 11, 12, 13, 14, 15, 16, 17, 18, 19, 20

## SOM Pad
designator SOM?  (value not drawn)  (no BOM)
SOM PAD 88 pin
footprint SOM PAD 17X27
pins: 1, 2, 3, 4, 5, 6, 7, 8, 9, 10, 11, 12, 13, 14, 15, 16, 17, 18, 19, 20, 21, 22, 23, 24, 25, 26, 27, 28, 29, 30, 31, 32, 33, 34, 35, 36, 37, 38, 39, 40, 41, 42, 43, 44, 45, 46, 47, 48, 49, 50, 51, 52, 53, 54, 55, 56, 57, 58, 59, 60, 61, 62, 63, 64, 65, 66, 67, 68, 69, 70, 71, 72, 73, 74, 75, 76, 77, 78, 79, 80, 81, 82, 83, 84, 85, 86, 87, 88

## SOM Pad 25x55
designator SOM?  (value not drawn)  (no BOM)
SOM PAD
footprint SOM PAD 30x55
pins: 1, 2, 3, 4, 5, 6, 7, 8, 9, 10, 11, 12, 13, 14, 15, 16, 17, 18, 19, 20, 21, 22, 23, 24, 25, 26, 27, 28, 29, 30, 31, 32, 33, 34, 35, 36, 37, 38, 39, 40, 41, 42, 43, 44, 45, 46, 47, 48, 49, 50, 51, 52, 53, 54, 55, 56, 57, 58, 59, 60

## Splice
designator SPL?  (value not drawn)  (no BOM)

## SPRH127-151M
designator L?  (value not drawn)
Power Inductor 150uH
footprint SPRH127-151M
pins: 1, 2

## SPRH127-471M
designator L?  (value not drawn)
Power Inductor 470uH
footprint SPRH127-151M
pins: 1, 2

## SR1712F-0108-20F0A-N9-N-027
designator RS?  (value not drawn)
Rotary Switch; Manufacturer_Name: Alpha (Taiwan); Manufacturer_Part_Number: SR1712F-0108-20F0A-N9-N-027; Datasheet Link: http://www.taiwanalpha.com/downloads?target=products&id=222; Height: 27.5mm; Mouser Part Number: 105-SR1712F-18NS; Mouser Price/Stock: https://www.mouser.co.uk/ProductDetail/Alpha-Taiwan/SR1712F-0108-20F0A-N9-N-027?qs=8%252Br4Hz5Xir90vqVXg0QR9g%3D%3D
footprint SR1712F010820F0AN9N027
pins: 1, 2, 3, 4, 5, 6, 7, 8, 9, 10, MH1, MH2

## SRP1770TA-4R7M
designator L?
Inductor; Manufacturer_Name: Bourns; Manufacturer_Part_Number: SRP1770TA-4R7M; Datasheet Link: https://datasheet.datasheetarchive.com/originals/distributors/DKDS-12/225126.pdf; Height: 7mm; Mouser Part Number: 652-SRP1770TA-4R7M; Mouser Price/Stock: https://www.mouser.co.uk/ProductDetail/Bourns/SRP1770TA-4R7M?qs=P%2FbxraXw5h0TW8hufbRYNQ%3D%3D; Arrow Part Number: SRP1770TA-4R7M; Arrow Price/Stock: https://www.arrow.com/en/products/srp1770ta-4r7m/bourns?region=nac
footprint SRP1770TA4R7M
pins: 1, 2

## SRP1770TA-220M
designator L?
Inductor; Manufacturer_Name: Bourns; Manufacturer_Part_Number: SRP1770TA-220M; Datasheet Link: https://datasheet.datasheetarchive.com/originals/distributors/DKDS-12/225126.pdf; Mouser Part Number: 652-SRP1770TA-220M; Mouser Price/Stock: https://www.mouser.co.uk/ProductDetail/Bourns/SRP1770TA-220M?qs=P%2FbxraXw5h18%252BrxQXbN4GQ%3D%3D; Arrow Part Number: SRP1770TA-220M; Arrow Price/Stock: https://www.arrow.com/en/products/srp1770ta-220m/bourns
footprint SRP1770TA220M
pins: 1, 2

## SRR1280-151K
designator L?
Inductor; Manufacturer_Name: Bourns; Manufacturer_Part_Number: SRR1280-151K; Datasheet Link: https://www.bourns.com/docs/Product-Datasheets/SRR1280.pdf; Height: 8mm; Mouser Part Number: 652-SRR1280-151K; Mouser Price/Stock: https://www.mouser.co.uk/ProductDetail/Bourns/SRR1280-151K?qs=brMhP%2FMjUfd38yqjX591uA%3D%3D; Arrow Part Number: SRR1280-151K; Arrow Price/Stock: https://www.arrow.com/en/products/srr1280-151k/bourns?utm_currency=USD&region=europe
footprint SRR1280151K
pins: 1, 2

## SS28-LTP
designator D?
Schottky Diode; Manufacturer_Name: Micro Commercial Components (MCC); Manufacturer_Part_Number: SS28-LTP; Datasheet Link: http://static6.arrow.com/aropdfconversion/584795bed44e747580ffbf237758d58446a3edf8/1679726235216402ss22-l-ss220-ldo-214ac.pdf; Height: 2.44mm; Mouser Part Number: 833-SS28-LTP; Arrow Part Number: SS28-LTP; Arrow Price/Stock: https://www.arrow.com/en/products/ss28-ltp/micro-commercial-components
footprint DIOM5226X244N
pins: 1 K, 2 A

## SS-60300-046
designator J?
RJ45 vertical Connector; Manufacturer_Name: Bel; Manufacturer_Part_Number: SS-60300-046; Datasheet Link: https://www.mouser.de/datasheet/2/643/dr-STW-SS-60300-046-1596894.pdf; Height: 14.33mm; Mouser Part Number: 530-SS-60300-046
footprint SS60300046
pins: 1, 2, 3, 4, 5, 6, 7, 8, MH1, MH2

## SSM-110-L-SV
designator J?
Connector; Manufacturer_Name: SAMTEC; Manufacturer_Part_Number: SSM-110-L-SV; Datasheet Link: https://componentsearchengine.com/Datasheets/2/SSM-110-L-SV.pdf; Height: 7.37mm; Mouser Part Number: 200-SSM110LSV; Mouser Price/Stock: https://www.mouser.com/Search/Refine.aspx?Keyword=200-SSM110LSV; RS Part Number: 7655420P; RS Price/Stock: http://uk.rs-online.com/web/p/products/7655420P
footprint SSM110LSV
pins: 1, 2, 3, 4, 5, 6, 7, 8, 9, 10

## SSM-120-L-SV
designator J?
Connector; Manufacturer_Name: SAMTEC; Manufacturer_Part_Number: SSM-120-L-SV; Datasheet Link: http://suddendocs.samtec.com/prints/ssm-1xx-xxx-xx-xx-xx-x-xx-xx-mkt.pdf; Height: 7.37mm; Mouser Part Number: 200-SSM120LSV; Mouser Price/Stock: https://www.mouser.com/Search/Refine.aspx?Keyword=200-SSM120LSV; RS Part Number: 7655452P; RS Price/Stock: http://uk.rs-online.com/web/p/products/7655452P
footprint SSM120LSV
pins: 1, 2, 3, 4, 5, 6, 7, 8, 9, 10, 11, 12, 13, 14, 15, 16, 17, 18, 19, 20

## SSW-113-01-F-D
designator J?
MF: Samtec; MP: SSW-113-01-F-D; System: Connector; Value: *; Price: None; Package: None; Availability: Unavailable
footprint SAMTEC_SSW-113-01-F-D
pins: 01, 02, 03, 04, 05, 06, 07, 08, 09, 10, 11, 12, 13, 14, 15, 16, 17, 18, 19, 20, 21, 22, 23, 24, 25, 26

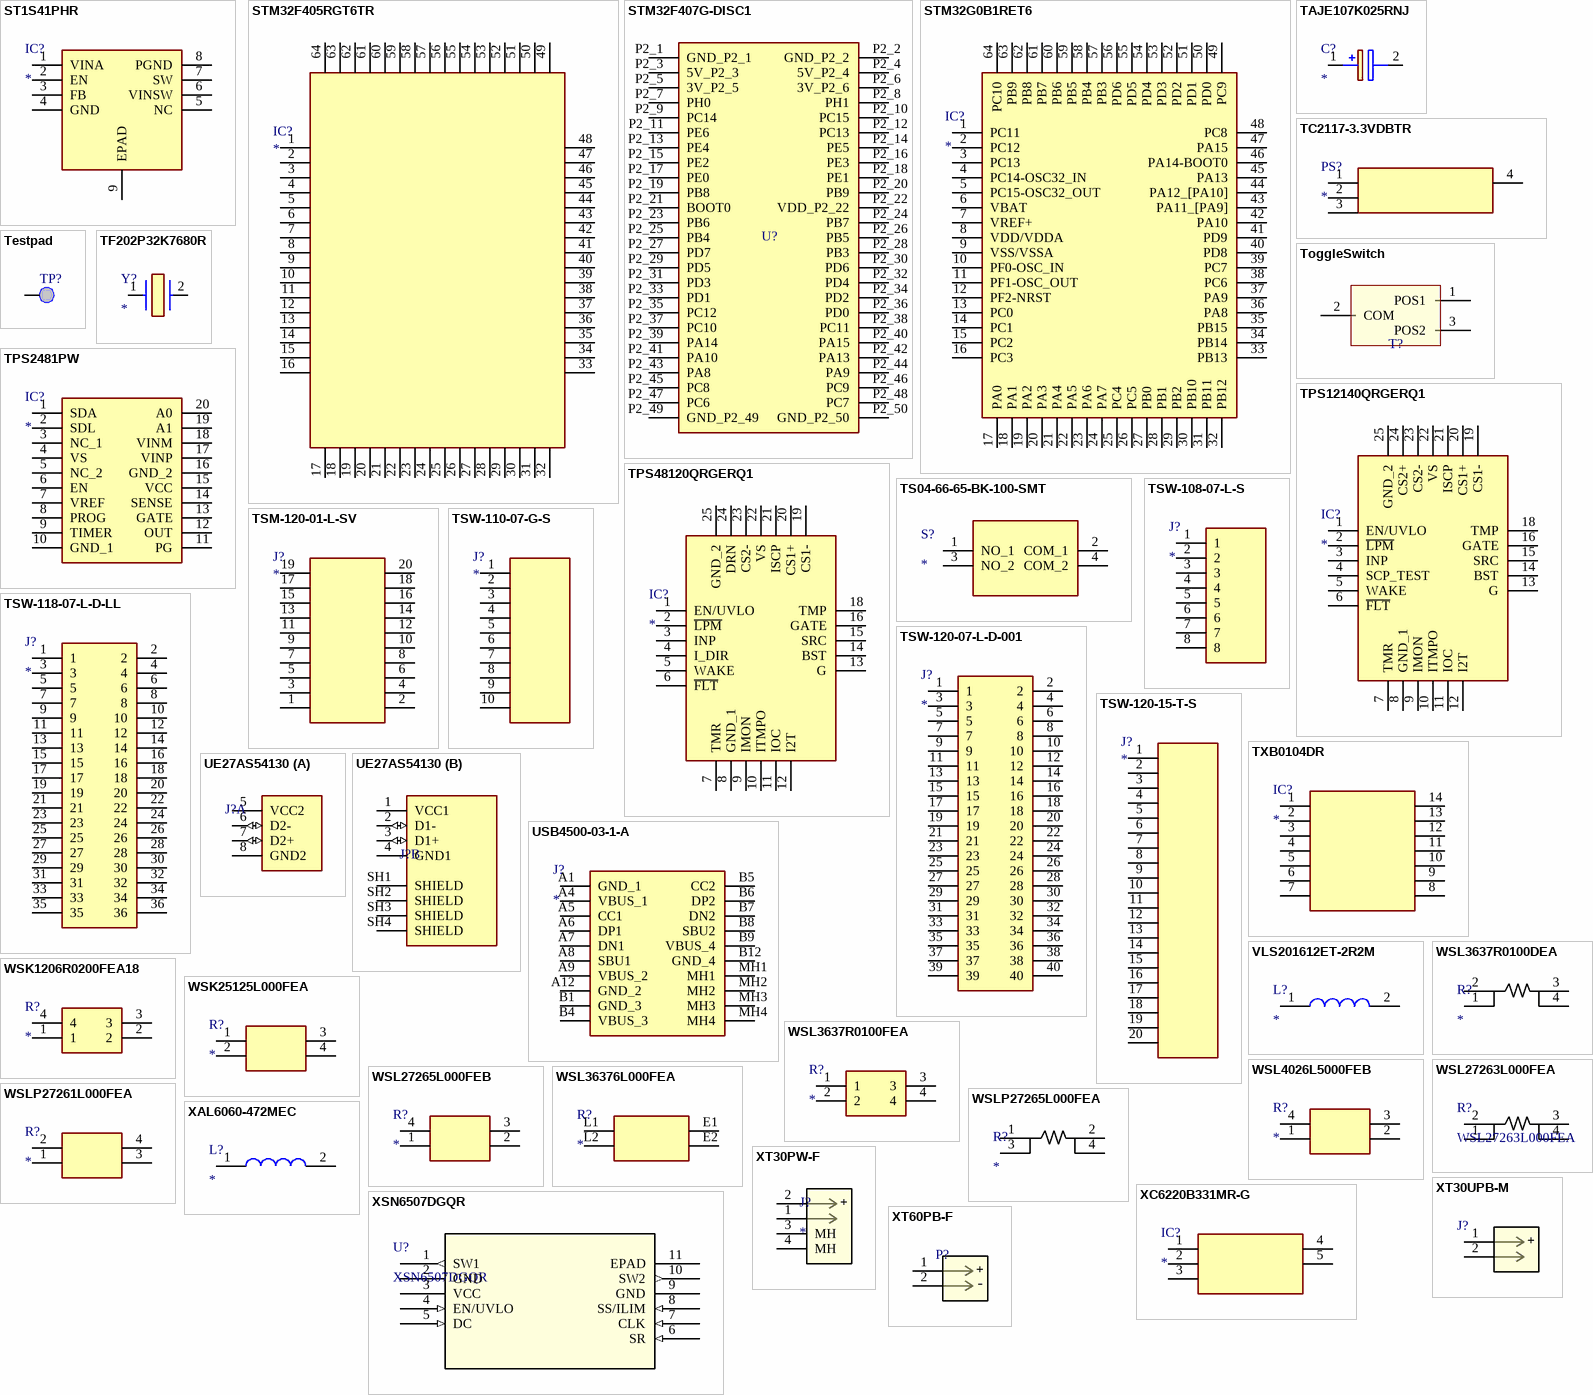
[diagram p5: symbols ST1S41PHR to XT60PB-F]

## ST1S41PHR
designator IC?
Integrated Circuit; Manufacturer_Name: STMicroelectronics; Manufacturer_Part_Number: ST1S41PHR; Datasheet Link: https://www.st.com/resource/en/datasheet/st1s41.pdf; Height: 1.7mm; Mouser Part Number: 511-ST1S41PHR; Mouser Price/Stock: https://www.mouser.co.uk/ProductDetail/STMicroelectronics/ST1S41PHR?qs=GlLcxsc1hfH42vbX3xy6fg%3D%3D; Arrow Part Number: ST1S41PHR; Arrow Price/Stock: https://www.arrow.com/en/products/st1s41phr/stmicroelectronics?utm_currency=USD&region=nac
footprint SOIC127P600X170-9N
pins: 1 VINA, 2 EN, 3 FB, 4 GND, 5 NC, 6 VINSW, 7 SW, 8 PGND, 9 EPAD

## STM32F405RGT6TR
designator IC?
Integrated Circuit; Manufacturer_Name: STMicroelectronics; Manufacturer_Part_Number: STM32F405RGT6TR; Allied_Number: 70391100; Datasheet Link: http://www.st.com/web/en/resource/technical/document/datasheet/DM00037051.pdf; Height: 1.6mm; Mouser Part Number: 511-STM32F405RGT6TR; Mouser Price/Stock: https://www.mouser.com/Search/Refine.aspx?Keyword=511-STM32F405RGT6TR; RS Part Number: 7926013P; RS Price/Stock: http://uk.rs-online.com/web/p/products/7926013P; Allied Price/Stock: http://www.alliedelec.com/stmicroelectronics-stm32f405rgt6tr/70391100/
footprint QFP50P1200X1200X160-64N
pins: 1 VBAT, 2 PC13, 3 PC14, 4 PC15, 5 PH0, 6 PH1, 7 NRST, 8 PC0, 9 PC1, 10 PC2, 11 PC3, 12 VSSA, 13 VDDA, 14 PA0_WKUP, 15 PA1, 16 PA2, 17 PA3, 18 VSS_1, 19 VDD_1, 20 PA4, 21 PA5, 22 PA6, 23 PA7, 24 PC4, 25 PC5, 26 PB0, 27 PB1, 28 PB2, 29 PB10, 30 PB11, 31 VCAP_1, 32 VDD_2, 33 PB12, 34 PB13, 35 PB14, 36 PB15, 37 PC6, 38 PC7, 39 PC8, 40 PC9, 41 PA8, 42 PA9, 43 PA10, 44 PA11, 45 PA12, 46 PA13, 47 VCAP_2, 48 VDD_3, 49 PA14, 50 PA15, 51 PC10, 52 PC11, 53 PC12, 54 PD2, 55 PB3, 56 PB4, 57 PB5, 58 PB6, 59 PB7, 60 BOOT0, 61 PB8, 62 PB9, 63 VSS_2, 64 VDD_4

## STM32F407G-DISC1
designator U?  (value not drawn)  (no BOM)
STM32F407Disco
footprint MODULE_STM32F407G-DISC1 (STM32407-Disco)
pins: P2_1 GND_P2_1, P2_2 GND_P2_2, P2_3 5V_P2_3, P2_4 5V_P2_4, P2_5 3V_P2_5, P2_6 3V_P2_6, P2_7 PH0, P2_8 PH1, P2_9 PC14, P2_10 PC15, P2_11 PE6, P2_12 PC13, P2_13 PE4, P2_14 PE5, P2_15 PE2, P2_16 PE3, P2_17 PE0, P2_18 PE1, P2_19 PB8, P2_20 PB9, P2_21 BOOT0, P2_22 VDD_P2_22, P2_23 PB6, P2_24 PB7, P2_25 PB4, P2_26 PB5, P2_27 PD7, P2_28 PB3, P2_29 PD5, P2_30 PD6, P2_31 PD3, P2_32 PD4, P2_33 PD1, P2_34 PD2, P2_35 PC12, P2_36 PD0, P2_37 PC10, P2_38 PC11, P2_39 PA14, P2_40 PA15, P2_41 PA10, P2_42 PA13, P2_43 PA8, P2_44 PA9, P2_45 PC8, P2_46 PC9, P2_47 PC6, P2_48 PC7, P2_49 GND_P2_49, P2_50 GND_P2_50

## STM32G0B1RET6
designator IC?
Integrated Circuit; Manufacturer_Name: STMicroelectronics; Manufacturer_Part_Number: STM32G0B1RET6; Datasheet Link: https://www.st.com/resource/en/datasheet/stm32g0b1cc.pdf; Height: 1.6mm; Mouser Part Number: 511-STM32G0B1RET6; Mouser Price/Stock: https://www.mouser.co.uk/ProductDetail/STMicroelectronics/STM32G0B1RET6?qs=pUKx8fyJudDnJgtz7LZZ0A%3D%3D; Arrow Part Number: STM32G0B1RET6; Arrow Price/Stock: https://www.arrow.com/en/products/stm32g0b1ret6/stmicroelectronics?region=nac
footprint QFP50P1200X1200X160-64N
pins: 1 PC11, 2 PC12, 3 PC13, 4 PC14-OSC32_IN, 5 PC15-OSC32_OUT, 6 VBAT, 7 VREF+, 8 VDD/VDDA, 9 VSS/VSSA, 10 PF0-OSC_IN, 11 PF1-OSC_OUT, 12 PF2-NRST, 13 PC0, 14 PC1, 15 PC2, 16 PC3, 17 PA0, 18 PA1, 19 PA2, 20 PA3, 21 PA4, 22 PA5, 23 PA6, 24 PA7, 25 PC4, 26 PC5, 27 PB0, 28 PB1, 29 PB2, 30 PB10, 31 PB11, 32 PB12, 33 PB13, 34 PB14, 35 PB15, 36 PA8, 37 PA9, 38 PC6, 39 PC7, 40 PD8, 41 PD9, 42 PA10, 43 PA11_[PA9], 44 PA12_[PA10], 45 PA13, 46 PA14-BOOT0, 47 PA15, 48 PC8, 49 PC9, 50 PD0, 51 PD1, 52 PD2, 53 PD3, 54 PD4, 55 PD5, 56 PD6, 57 PB3, 58 PB4, 59 PB5, 60 PB6, 61 PB7, 62 PB8, 63 PB9, 64 PC10

## TAJE107K025RNJ
designator C?
Capacitor Polarised; Manufacturer_Name: Kyocera AVX; Manufacturer_Part_Number: TAJE107K025RNJ; Datasheet Link: http://datasheets.avx.com/TAJ.pdf; Height: 4.3mm; Mouser Part Number: 581-TAJE107K025RNJ; Mouser Price/Stock: https://www.mouser.co.uk/ProductDetail/KYOCERA-AVX/TAJE107K025RNJ?qs=HntymAmTeUGEqQNMYacWDQ%3D%3D; Arrow Part Number: TAJE107K025RNJ; Arrow Price/Stock: https://www.arrow.com/en/products/taje107k025rnj/avx
footprint CAPPM7344X430N
pins: 1 +, 2 -

## TC2117-3.3VDBTR
designator PS?
Power Supply; Manufacturer_Name: Microchip; Manufacturer_Part_Number: TC2117-3.3VDBTR; Datasheet Link: https://componentsearchengine.com/Datasheets/2/TC2117-3.3VDBTR.pdf; Height: 1.8mm; Mouser Part Number: 579-TC2117-3.3VDBTR; Mouser Price/Stock: https://www.mouser.com/Search/Refine.aspx?Keyword=579-TC2117-3.3VDBTR; RS Part Number: 8234434P; RS Price/Stock: http://uk.rs-online.com/web/p/products/8234434P
footprint SOT230P700X180-4N
pins: 1 GND, 2 VOUT_1, 3 VIN, 4 VOUT_2

## Testpad
designator TP?  (value not drawn)  (no BOM)
Testpoint
footprint Testpad
pins: 1

## TF202P32K7680R
designator Y?
Crystal or Oscillator; Manufacturer_Name: CTS; Manufacturer_Part_Number: TF202P32K7680R; Datasheet Link: http://www.ctscorp.com/Files/DataSheets/Passives/FCP/Crystals/crystals-TF20-datasheet.pdf; Height: 0.6mm; Mouser Part Number: 774-TF202P32K7680R; Mouser Price/Stock: https://www.mouser.co.uk/ProductDetail/CTS-Electronic-Components/TF202P32K7680R?qs=BZBei1rCqCCbsnTMPizwFw%3D%3D; Arrow Part Number: TF202P32K7680R; Arrow Price/Stock: https://www.arrow.com/en/products/tf202p32k7680r/cts
footprint TF202P32K7680R
pins: 1, 2

## ToggleSwitch
designator T?  (value not drawn)
ToggleSwitch 3 PIN
footprint Toggle_Switch (6.3mm spade 3 pin)
pins: 1 POS1, 2 COM, 3 POS2

## TPS2481PW
designator IC?
Integrated Circuit; Manufacturer_Name: Texas Instruments; Manufacturer_Part_Number: TPS2481PW; Datasheet Link: https://www.ti.com/lit/ds/symlink/tps2481.pdf?ts=1646386296990&ref_url=https%253A%252F%252Fwww.ti.com%252Fproduct%252FTPS2481; Height: 1.2mm; Mouser Part Number: 595-TPS2481PW; Mouser Price/Stock: https://www.mouser.co.uk/ProductDetail/Texas-Instruments/TPS2481PW?qs=HM7Ob9npyBIdgRo7FAgFHw%3D%3D
footprint SOP65P640X120-20N
pins: 1 SDA, 2 SDL, 3 NC_1, 4 VS, 5 NC_2, 6 EN, 7 VREF, 8 PROG, 9 TIMER, 10 GND_1, 11 PG, 12 OUT, 13 GATE, 14 SENSE, 15 VCC, 16 GND_2, 17 VINP, 18 VINM, 19 A1, 20 A0

## TPS12140QRGERQ1
designator IC?
Integrated Circuit; Manufacturer_Name: Texas Instruments; Manufacturer_Part_Number: TPS12140QRGERQ1; Datasheet Link: https://www.ti.com/lit/ds/symlink/tps1214-q1.pdf; Height: 1mm
footprint TPS12140QRGERQ1
pins: 1 EN/UVLO, 2 ~{LPM}, 3 INP, 4 SCP_TEST, 5 WAKE, 6 ~{FLT}, 7 TMR, 8 GND_1, 9 IMON, 10 ITMPO, 11 IOC, 12 I2T, 13 G, 14 BST, 15 SRC, 16 GATE, 18 TMP, 19 CS1-, 20 CS1+, 21 ISCP, 22 VS, 23 CS2-, 24 CS2+, 25 GND_2

## TPS48120QRGERQ1
designator IC?
Integrated Circuit; Manufacturer_Name: Texas Instruments; Manufacturer_Part_Number: TPS48120QRGERQ1; Datasheet Link: https://www.ti.com/lit/ds/symlink/tps4812-q1.pdf?ts=1758619989497&ref_url=https%253A%252F%252Fwww.ti.com%252Fproduct%252FTPS4812-Q1%252Fpart-details%252FTPS48120QRGERQ1; Height: 1mm
footprint TPS48120QRGERQ1
pins: 1 EN/UVLO, 2 ~{LPM}, 3 INP, 4 I_DIR, 5 WAKE, 6 ~{FLT}, 7 TMR, 8 GND_1, 9 IMON, 10 ITMPO, 11 IOC, 12 I2T, 13 G, 14 BST, 15 SRC, 16 GATE, 18 TMP, 19 CS1-, 20 CS1+, 21 ISCP, 22 VS, 23 CS2-, 24 DRN, 25 GND_2

## TS04-66-65-BK-100-SMT
designator S?
Switch; Manufacturer_Name: Same Sky; Manufacturer_Part_Number: TS04-66-65-BK-100-SMT; Datasheet Link: https://www.sameskydevices.com/product/resource/ts04.pdf; Height: 6.7mm; Mouser Part Number: 179-TS046665BK100SMT; Mouser Price/Stock: https://www.mouser.co.uk/ProductDetail/CUI-Devices/TS04-66-65-BK-100-SMT?qs=A6eO%252BMLsxmTlxdd7LvEadg%3D%3D; Arrow Part Number: TS04-66-65-BK-100-SMT; Arrow Price/Stock: https://www.arrow.com/en/products/ts04-66-65-bk-100-smt/cui-devices?region=nac
footprint TS046665BK100SMT
pins: 1 NO_1, 2 COM_1, 3 NO_2, 4 COM_2

## TSM-120-01-L-SV
designator J?
Connector; Manufacturer_Name: SAMTEC; Manufacturer_Part_Number: TSM-120-01-L-SV; Datasheet Link: http://suddendocs.samtec.com/prints/tsm-1xx-xx-xxx-sv-xx-xxx-xx-mkt.pdf; Height: 8.38mm; Mouser Part Number: 200-TSM12001LSV; Mouser Price/Stock: https://www.mouser.com/Search/Refine.aspx?Keyword=200-TSM12001LSV; RS Part Number: 7670757P; RS Price/Stock: http://uk.rs-online.com/web/p/products/7670757P
footprint TSM12001LSV
pins: 1, 2, 3, 4, 5, 6, 7, 8, 9, 10, 11, 12, 13, 14, 15, 16, 17, 18, 19, 20

## TSW-108-07-L-S
designator J?
Connector; Manufacturer_Name: SAMTEC; Manufacturer_Part_Number: TSW-108-07-L-S; Datasheet Link: http://suddendocs.samtec.com/prints/tsw-xxx-xx-xxx-x-xx-xxx-mkt.pdf; Mouser Part Number: 200-TSW10807LS; Mouser Price/Stock: https://www.mouser.co.uk/ProductDetail/Samtec/TSW-108-07-L-S?qs=%2FzDt21ERIRcZueatinYlUA%3D%3D; Arrow Part Number: TSW-108-07-L-S; Arrow Price/Stock: https://www.arrow.com/en/products/tsw-108-07-l-s/samtec
footprint TSW-108-XX-YY-S
pins: 1, 2, 3, 4, 5, 6, 7, 8

## TSW-110-07-G-S
designator J?
Connector; Manufacturer_Name: SAMTEC; Manufacturer_Part_Number: TSW-110-07-G-S; Datasheet Link: http://suddendocs.samtec.com/catalog_english/tsw_th.pdf; Height: 8.38mm; Mouser Part Number: 200-TSW11007GS; Mouser Price/Stock: https://www.mouser.com/Search/Refine.aspx?Keyword=200-TSW11007GS; RS Part Number: 1802051P; RS Price/Stock: http://uk.rs-online.com/web/p/products/1802051P
footprint HDRV10W64P254_1X10_2540X241X838P
pins: 1, 2, 3, 4, 5, 6, 7, 8, 9, 10

## TSW-118-07-L-D-LL
designator J?
Connector; Manufacturer_Name: SAMTEC; Manufacturer_Part_Number: TSW-118-07-L-D-LL; Datasheet Link: http://suddendocs.samtec.com/catalog_english/tsw_th.pdf; Height: 8.38mm; Mouser Part Number: 200-TSW11807LDLL; Mouser Price/Stock: https://www.mouser.co.uk/ProductDetail/Samtec/TSW-118-07-L-D-LL?qs=rU5fayqh%252BE2KD2eBi%252BLyYQ%3D%3D
footprint HDRV36W64P254_2X18_4572X495X838P
pins: 1, 2, 3, 4, 5, 6, 7, 8, 9, 10, 11, 12, 13, 14, 15, 16, 17, 18, 19, 20, 21, 22, 23, 24, 25, 26, 27, 28, 29, 30, 31, 32, 33, 34, 35, 36

## TSW-120-07-L-D-001
designator J?
Connector; Manufacturer_Name: SAMTEC; Manufacturer_Part_Number: TSW-120-07-L-D-001; Height: 8.38mm; Mouser Part Number: 200-TSW12007LD001; Mouser Price/Stock: https://www.mouser.co.uk/ProductDetail/Samtec/TSW-120-07-L-D-001?qs=PB6%2FjmICvI2UZ93LT%2Ff3rw%3D%3D
footprint HDRV40W64P254_2X20_5080X508X838P
pins: 1, 2, 3, 4, 5, 6, 7, 8, 9, 10, 11, 12, 13, 14, 15, 16, 17, 18, 19, 20, 21, 22, 23, 24, 25, 26, 27, 28, 29, 30, 31, 32, 33, 34, 35, 36, 37, 38, 39, 40

## TSW-120-15-T-S
designator J?
Connector; Manufacturer_Name: SAMTEC; Manufacturer_Part_Number: TSW-120-15-T-S; Datasheet Link: http://suddendocs.samtec.com/catalog_english/tsw_th.pdf; Height: 15.75mm; Mouser Part Number: 200-TSW12015TS; Mouser Price/Stock: https://www.mouser.com/Search/Refine.aspx?Keyword=200-TSW12015TS; RS Part Number: 1803472; RS Price/Stock: https://uk.rs-online.com/web/p/products/1803472
footprint HDRV20W64P254_1X20_5080X241X1575P
pins: 1, 2, 3, 4, 5, 6, 7, 8, 9, 10, 11, 12, 13, 14, 15, 16, 17, 18, 19, 20

## TXB0104DR
designator IC?
Integrated Circuit; Manufacturer_Name: Texas Instruments; Manufacturer_Part_Number: TXB0104DR; Datasheet Link: http://www.ti.com/lit/gpn/txb0104; Height: 1.75mm; Mouser Part Number: 595-TXB0104DR; Mouser Price/Stock: https://www.mouser.com/Search/Refine.aspx?Keyword=595-TXB0104DR
footprint SOIC127P600X175-14N
pins: 1 VCCA, 2 A1, 3 A2, 4 A3, 5 A4, 6 NC_1, 7 GND, 8 OE, 9 NC_2, 10 B4, 11 B3, 12 B2, 13 B1, 14 VCCB

## UE27AS54130
designator J?  (value not drawn)
USB connector receptable 2.0 2 port
footprint UE27AS54130 (USB connector 2.0 2 port)
part A pins: 5 VCC2 (power), 6 D2- (io), 7 D2+ (io), 8 GND2 (power)
part B pins: 1 VCC1 (power), 2 D1- (io), 3 D1+ (io), 4 GND1 (power), SH1 SHIELD, SH2 SHIELD, SH3 SHIELD, SH4 SHIELD

## USB4500-03-1-A
designator J?
Connector; Manufacturer_Name: GCT (GLOBAL CONNECTOR TECHNOLOGY); Manufacturer_Part_Number: USB4500-03-1-A; Datasheet Link: https://pl.mouser.com/datasheet/2/837/usb4500-2583670.pdf; Height: 3.36mm; Mouser Part Number: 640-USB4500031A; Mouser Price/Stock: https://www.mouser.co.uk/ProductDetail/GCT/USB4500-03-1-A?qs=7D1LtPJG0i0Bl4gt1pUZZw%3D%3D
footprint USB4500031A
pins: A1 GND_1, A4 VBUS_1, A5 CC1, A6 DP1, A7 DN1, A8 SBU1, A9 VBUS_2, A12 GND_2, B1 GND_3, B4 VBUS_3, B5 CC2, B6 DP2, B7 DN2, B8 SBU2, B9 VBUS_4, B12 GND_4, MH1, MH2, MH3, MH4

## VLS201612ET-2R2M
designator L?
Inductor; Manufacturer_Name: TDK; Manufacturer_Part_Number: VLS201612ET-2R2M; Datasheet Link: https://product.tdk.com/info/en/documents/wdcatalog/withdrawn_inductor_commercial_power_vls201612e_en.pdf; Height: 1.2mm; Mouser Part Number: 810-VLS201612ET-2R2M; Mouser Price/Stock: https://www.mouser.com/Search/Refine.aspx?Keyword=810-VLS201612ET-2R2M; RS Part Number: 9039603; RS Price/Stock: https://uk.rs-online.com/web/p/products/9039603
footprint VLS201612ET2R2M
pins: 1, 2

## WSK1206R0200FEA18
designator R?
Resistor; Manufacturer_Name: Vishay; Manufacturer_Part_Number: WSK1206R0200FEA18; Datasheet Link: https://www.vishay.com/docs/30325/wsk120618.pdf; Height: 0.889mm; Mouser Part Number: 71-WSK1206R0200FEA18; Mouser Price/Stock: https://www.mouser.co.uk/ProductDetail/Vishay-Dale/WSK1206R0200FEA18?qs=GtWAI9k6EVh%2FDAEvZjPd0Q%3D%3D; Arrow Part Number: WSK1206R0200FEA18; Arrow Price/Stock: https://www.arrow.com/en/products/wsk1206r0200fea18/vishay
footprint WSK1206R0200FEA18
pins: 1, 2, 3, 4

## WSK25125L000FEA
designator R?
Resistor; Manufacturer_Name: Vishay; Manufacturer_Part_Number: WSK25125L000FEA; Datasheet Link: https://componentsearchengine.com/Datasheets/2/WSK25125L000FEA.pdf; Height: 0.889mm; Mouser Part Number: 71-WSK25125L000FEA; Mouser Price/Stock: https://www.mouser.co.uk/ProductDetail/Vishay-Dale/WSK25125L000FEA?qs=fncU5wK7Cm9dbunu4nL6wA%3D%3D; Arrow Part Number: WSK25125L000FEA; Arrow Price/Stock: https://www.arrow.com/en/products/wsk25125l000fea/vishay
footprint WSK25125L000FEA
pins: 1, 2, 3, 4

## WSL3637R0100DEA
designator R?
10mohm 3W current sense resistor; Manufacturer_Name: Vishay; Manufacturer_Part_Number: WSL3637R0100DEA; Datasheet Link: https://componentsearchengine.com/Datasheets/1/WSL3637R0100DEA.pdf; Height: 0.889mm; Mouser Part Number: 71-WSL3637R0100DEA; Mouser Price/Stock: https://www.mouser.co.uk/ProductDetail/Vishay-Dale/WSL3637R0100DEA?qs=5qr1tyFj3NLzr0u0T49OJA%3D%3D; Arrow Part Number: WSL3637R0100DEA; Arrow Price/Stock: https://www.arrow.com/en/products/wsl3637r0100dea/vishay
footprint WSL3637R0100DEA
pins: 1, 2, 3, 4

## WSL3637R0100FEA
designator R?
Resistor; Manufacturer_Name: Vishay; Manufacturer_Part_Number: WSL3637R0100FEA; Datasheet Link: https://www.vishay.com/docs/30099/wsl3637.pdf; Height: 0.889mm; Mouser Part Number: 71-WSL3637R0100FEA; Mouser Price/Stock: https://www.mouser.co.uk/ProductDetail/Vishay-Dale/WSL3637R0100FEA?qs=fncU5wK7Cm%2FAlU0fK6gwtw%3D%3D; Arrow Part Number: WSL3637R0100FEA; Arrow Price/Stock: https://www.arrow.com/en/products/wsl3637r0100fea/vishay?region=nac
footprint WSL3637R0100FEA
pins: 1, 2, 3, 4

## WSL4026L5000FEB
designator R?
Resistor; Manufacturer_Name: Vishay; Manufacturer_Part_Number: WSL4026L5000FEB; Datasheet Link: https://www.vishay.com/docs/30132/wsl4026.pdf; Height: 3.15mm; Mouser Part Number: 71-WSL4026L5000FEB; Mouser Price/Stock: https://www.mouser.co.uk/ProductDetail/Vishay-Dale/WSL4026L5000FEB?qs=IEx0hrcTkJYTS%252BvaRAENjw%3D%3D; Arrow Part Number: WSL4026L5000FEB; Arrow Price/Stock: https://www.arrow.com/en/products/wsl4026l5000feb/vishay?region=nac
footprint WSL4026L5000FEB
pins: 1, 2, 3, 4

## WSL27263L000FEA
designator R?
Current Sense Resistor; Manufacturer_Name: Vishay; Datasheet Link: https://www.vishay.com/docs/30131/wsl2726.pdf; Height: 2.99mm; Manufacturer_Part_Number: WSL27263L000FEA; Mouser Part Number: 71-WSL27263L000FEA; Mouser Price/Stock: https://www.mouser.co.uk/ProductDetail/Vishay-Dale/WSL27263L000FEA?qs=eFWhpKjIuGhZ1Mn4MB4N%252Bg%3D%3D; Arrow Part Number: WSL27263L000FEA; Arrow Price/Stock: https://www.arrow.com/en/products/wsl27263l000fea/vishay; Supplier 1: DigiKey; Supplier Part Number 1: 541-10340-1-ND
footprint WSL27263L000FEA (Footprint not found)
pins: 1, 2, 3, 4

## WSL27265L000FEB
designator R?
Resistor; Manufacturer_Name: Vishay; Manufacturer_Part_Number: WSL27265L000FEB; Datasheet Link: http://www.vishay.com/docs/30131/wsl2726.pdf; Height: 2.99mm; Mouser Part Number: 71-WSL27265L000FEB; Mouser Price/Stock: https://www.mouser.com/Search/Refine.aspx?Keyword=71-WSL27265L000FEB; Arrow Part Number: WSL27265L000FEB; Arrow Price/Stock: https://www.arrow.com/en/products/wsl27265l000feb/vishay
footprint WSL27265L000FEB
pins: 1, 2, 3, 4